# Altium footprint library Active-LED.PcbLib: 43 footprints (part 3 of 3)
Each footprint in its own frame and in the unit in brackets; x right, y up, seen from the top. Pads: shape width x height; smd on the part's side, far side on the other; paste and mask are expansions set on the pad; w line width, h text height; cw(c..) or ccw(c..) is an arc to the next point about the centre after c.
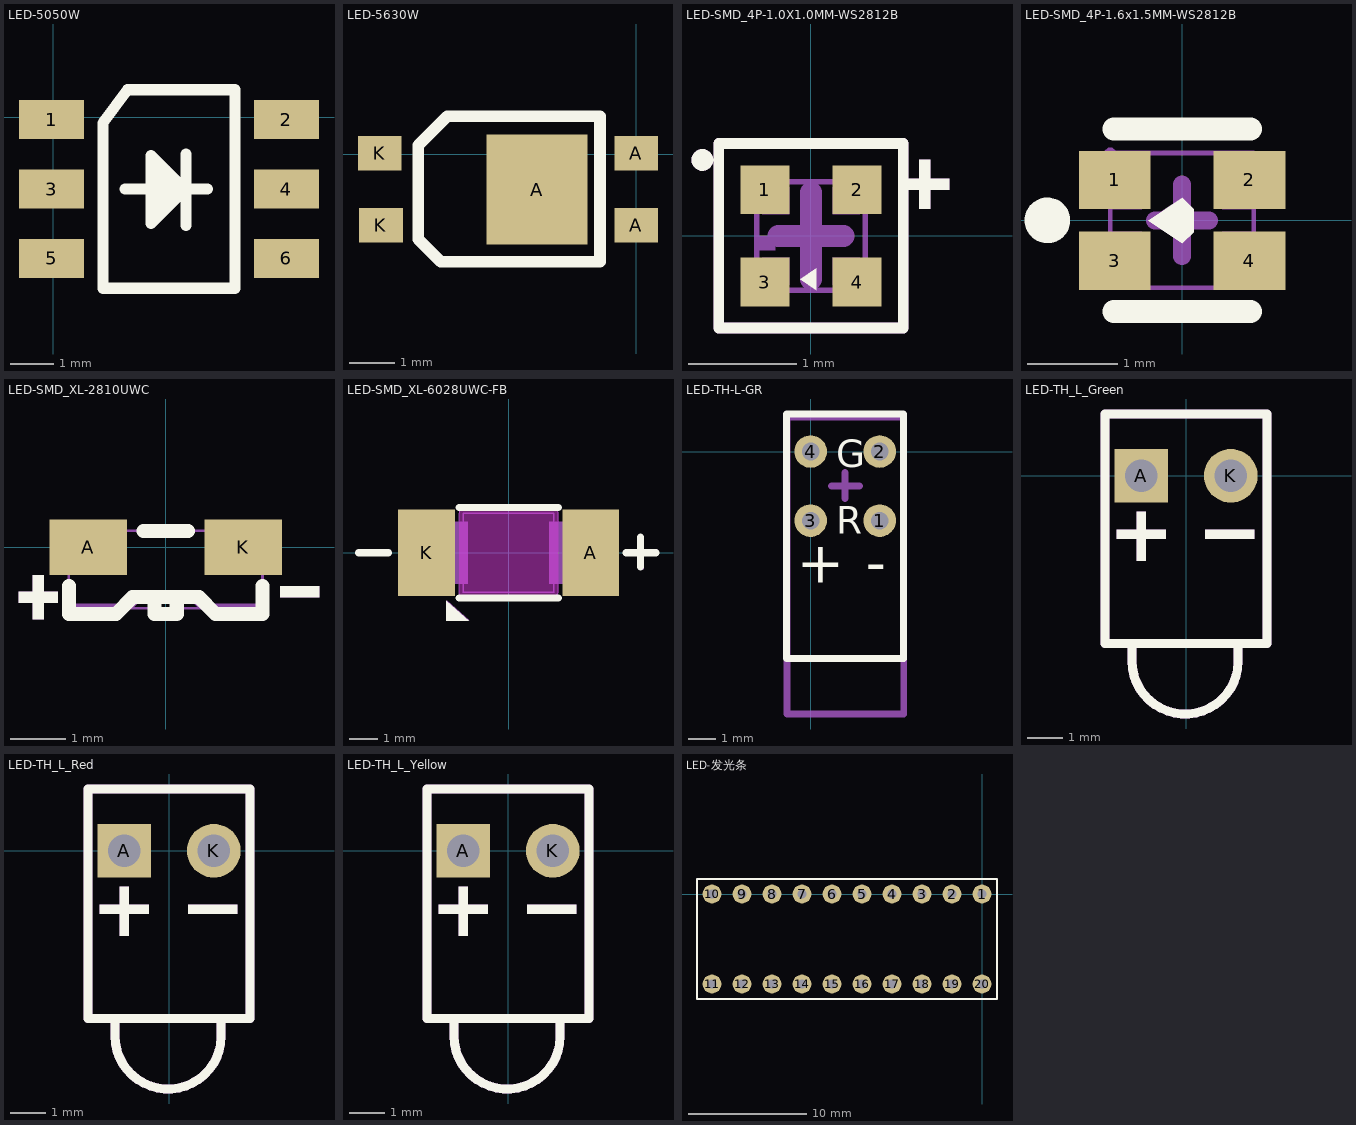
[diagram p2: the footprints below, top view; thin cyan lines are the x and y axes]

## LED-5050W [mm]
pads (6):
  rect 1.5x0.9 smd: 1(-0.038,-0.051) 2(5.372,-0.051) 3(-0.038,-1.651) 4(5.372,-1.651) 5(-0.038,-3.251) 6(5.372,-3.251)
Top Overlay:
  lines w0.254: 1.651,-1.651 3.556,-1.651 ; 2.413,-1.092 2.438,-2.083 2.921,-1.651 2.667,-1.397 2.667,-1.651 2.667,-1.905 ; 3.023,-1.671 2.25,-2.443 2.25,-0.876 3.063,-1.689 ; 3.063,-2.492 3.063,-0.846 ; 1.143,-3.937 4.191,-3.937 4.191,0.635 1.714,0.635 1.143,-0.127 1.143,-3.937
Bottom Courtyard:
  circle w0.05: c2.667,-1.651 r0.35
  lines w0.05: 2.167,-1.651 3.167,-1.651 ; 2.667,-2.151 2.667,-1.151
3D body "2.STEP": height 1.65, standoff 0.05, extent -0.033,-4.111 5.367,0.889

## LED-5630W [mm]
pads (5):
  rect 2.2x2.4 smd: A(-2.159,-0.768)
  rect 0.95x0.75 smd: A(0,-1.543) A(0,0.019) K(-5.588,0.019) K(-5.563,-1.543)
Top Overlay:
  lines w0.254: -4.75,-1.854 -4.75,0.197 -4.115,0.832 -0.787,0.832 -0.787,-2.343 -4.261,-2.343 -4.75,-1.854
3D body "1.STEP": height 0.95, standoff 0.05, extent -5.567,-2.286 0.233,0.714

## LED-SMD_4P-1.0X1.0MM-WS2812B [mm] "XINGLIGHT(成兴光)    XL-1010RGBC-WS2812B"
pads (4):
  rect 0.45x0.45 smd: 1(-0.425,0.425) 2(0.425,0.425) 3(-0.425,-0.425) 4(0.425,-0.425)
Top Overlay:
  circle w0.1: c-1,0.7 r0.05
  region: 0.825,0.525 0.825,0.425 1.275,0.425 1.275,0.525
  region: 1,0.25 1.1,0.25 1.1,0.7 1,0.7
  region: 0.05,-0.5 -0.1,-0.4 0.05,-0.3
  lines w0.1: -0.85,-0.85 0.85,-0.85 0.85,0.85 -0.85,0.85 -0.85,-0.85
Top Component Center:
  lines w0.2: -0.3,0 0.3,0 ; 0,-0.4 0,0.4
Top Value:
  text "'.Comment'" at -2.75,-0.38 h1.27
Top Designator:
  text "'.Designator'" at -3.642,-0.495 h1.27
Top Assembly (Mech20):
  circle w0.1: c-1,0.7 r0.05
  region: -0.5,0 -0.5,-0.13 -0.34,-0.13 -0.33,-0.13 -0.33,0
  region: 0.825,0.525 0.825,0.425 1.275,0.425 1.275,0.525
  region: 1,0.25 1.1,0.25 1.1,0.7 1,0.7
  region: 0.05,-0.5 -0.1,-0.4 0.05,-0.3
  region: 0.2,0.45 0.45,0.45 0.45,0.2 0.2,0.2
  region: -0.45,0.2 -0.45,0.45 -0.2,0.45 -0.2,0.2
  region: 0.45,-0.2 0.45,-0.45 0.2,-0.45 0.2,-0.2
  region: -0.2,-0.45 -0.45,-0.45 -0.45,-0.2 -0.2,-0.2
  region: -0.44,0.5 -0.44,0.524 -0.475,0.559 -0.524,0.559 -0.559,0.524 -0.56,0.5 -0.559,0.475 -0.524,0.441 -0.475,0.441 -0.44,0.475 -0.44,0.5
  lines w0.051: -0.5,-0.5 0.5,-0.5 0.5,0.5 -0.5,0.5 -0.5,-0.5
  lines w0.1: -0.85,-0.85 0.85,-0.85 0.85,0.85 -0.85,0.85 -0.85,-0.85
3D body "XL-1010RGBC-WS2812B.step": height 0.8, standoff -0.01, extent -0.5,-0.501 0.5,0.5

## LED-SMD_4P-1.6x1.5MM-WS2812B [mm] "XINGLIGHT(成兴光)   XL-1615RGBC-WS2812B"
pads (4):
  rect 0.8x0.65 smd paste+0 mask+0.05: 1(-0.75,0.45) 2(0.75,0.45) 3(-0.75,-0.45) 4(0.75,-0.45)
Top Overlay:
  circle w0.254: c-1.5,0 r0.127
  region: 0.129,-0.13 0.129,0.124 0.002,0.251 -0.379,-0.003 0.002,-0.257
  lines w0.254: -0.762,-1.016 0.762,-1.016 ; -0.762,1.016 0.762,1.016
Top Component Center:
  lines w0.2: -0.3,0 0.3,0 ; 0,-0.4 0,0.4
Top Value:
  text "'.Comment'" at -2.75,-0.38 h1.27
Top Designator:
  text "'.Designator'" at -3.642,-0.495 h1.27
Top Assembly (Mech20):
  region: -0.45,0.725 -0.45,0.125 -0.8,0.125 -0.8,0.725
  region: 0.8,0.725 0.8,0.125 0.45,0.125 0.45,0.725
  region: -0.45,-0.125 -0.45,-0.725 -0.8,-0.725 -0.8,-0.125
  region: 0.8,-0.125 0.8,-0.725 0.45,-0.725 0.45,-0.125
  region: -0.74,0.75 -0.741,0.775 -0.776,0.809 -0.825,0.809 -0.86,0.775 -0.86,0.75 -0.86,0.726 -0.825,0.691 -0.776,0.691 -0.741,0.726 -0.74,0.75
  region: 0.127,-0.127 0.127,0.127 0,0.254 -0.381,0 0,-0.254
  lines w0.051: -0.8,-0.75 0.8,-0.75 0.8,0.75 -0.8,0.75 -0.8,-0.75
3D body "XL-1615RGBC-WS2812B.step": height 0.59, standoff 0, extent -0.8,-0.75 0.8,0.75

## LED-SMD_XL-2810UWC [mm] "侧贴 白 XINGLIGHT(成兴光)   XL-2810UWC SMD,1.4x3.5mm"
pads (2):
  rect 1.4x1 smd: A(-1.4,0) K(1.4,0)
Top Overlay:
  region: -2.2,-1.3 -2.4,-1.3 -2.4,-0.5 -2.2,-0.5
  region: 2.77,-0.9 2.07,-0.9 2.07,-0.7 2.77,-0.7
  region: -1.95,-1 -2.65,-1 -2.65,-0.8 -1.95,-0.8
  lines w0.254: -1.75,-0.7 -1.75,-1.2 -0.899,-1.2 -0.6,-0.9 0.599,-0.9 0.899,-1.2 1.75,-1.2 1.75,-0.7 ; -0.4,0.3 0.4,0.3 ; -0.2,-1 -0.2,-1.2 0.2,-1.2 0.2,-0.9
Top Value:
  text "'.Comment'" at -2.75,-0.38 h1.27
Top Designator:
  text "'.Designator'" at -3.642,-0.495 h1.27
Top Courtyard:
  region: -1.69,-1.1 -1.69,-1.075 -1.725,-1.04 -1.775,-1.04 -1.81,-1.075 -1.81,-1.1 -1.81,-1.125 -1.775,-1.16 -1.725,-1.16 -1.69,-1.125 -1.69,-1.1
  region: -1.75,0.2 -1.07,0.2 -1.07,-0.4 -1.53,-0.4 -1.53,-0.04 -1.75,-0.04
  region: 1.75,0.2 1.07,0.2 1.07,-0.4 1.53,-0.4 1.53,-0.04 1.75,-0.04
  lines w0.051: -1.75,-1.1 1.75,-1.1 1.75,0.3 -1.75,0.3 -1.75,-1.1
Top Assembly (Mech20):
  region: 2.77,-0.9 2.07,-0.9 2.07,-0.7 2.77,-0.7
  region: -2.2,-1.3 -2.4,-1.3 -2.4,-0.5 -2.2,-0.5
  region: -1.95,-1 -2.65,-1 -2.65,-0.8 -1.95,-0.8
  region: 1.69,-1.08 0.58,-1.08 0.37,-0.87 -0.37,-0.87 -0.57,-1.07 -1.7,-1.07 -1.7,-1.02 -0.59,-1.02 -0.39,-0.82 0.39,-0.82 0.59,-1.02 1.69,-1.02
3D body "XL-2810UWC.step": height 1.2, standoff -0.01, extent -1.75,-1.1 1.75,0.3

## LED-SMD_XL-6028UWC-FB [mm] "6028 反贴 冷白 XINGLIGHT(成兴光) XL-6028UWC-FB"
pads (2):
  rect 2x3.066 smd: A(2.9,0) K(-2.9,0)
Top Overlay:
  region: -2.2,-1.7 -2.2,-2.4 -1.4,-2.4
  lines w0.254: -5.299,0 -4.249,0 ; -1.75,-1.6 1.75,-1.6 ; -1.75,1.6 1.75,1.6 ; 4.15,0 5.2,0 ; 4.662,-0.499 4.662,0.551
Keep-Out Layer:
  board cut-out: 1.524,-1.6 1.569,-1.6 1.652,-1.566 1.716,-1.502 1.75,-1.419 1.75,-1.374 1.75,-1.27 1.75,1.4 1.75,1.44 1.72,1.513 1.663,1.57 1.59,1.6 1.55,1.6 1.4,1.6 -1.5,1.6 -1.55,1.6 -1.59,1.6 -1.663,1.57 -1.72,1.513 -1.75,1.44 -1.75,1.4 -1.75,-1.45 -1.75,-1.48 -1.727,-1.535 -1.685,-1.577 -1.63,-1.6 -1.6,-1.6 -1.55,-1.6
Board Outline:
  lines w0.025: -1.75,-1.45 ccw(c-1.6,-1.45) -1.6,-1.6 -1.55,-1.6 1.524,-1.6 ccw(c1.524,-1.374) 1.75,-1.374 1.75,-1.27 1.75,1.4 ccw(c1.55,1.4) 1.55,1.6 1.4,1.6 -1.5,1.6 -1.55,1.6 ccw(c-1.55,1.4) -1.75,1.4 -1.75,-1.45
Top Courtyard:
  region: -2.88,-1.4 -2.881,-1.376 -2.916,-1.343 -2.964,-1.343 -2.999,-1.376 -3,-1.4 -2.999,-1.424 -2.964,-1.458 -2.916,-1.458 -2.881,-1.424 -2.88,-1.4
  region: -2.94,-1.095 -1.44,-1.095 -1.44,1.095 -2.94,1.095
  region: 2.94,-1.095 1.44,-1.095 1.44,1.095 2.94,1.095
  lines w0.051: -1.6,-1.4 1.6,-1.4 1.6,1.4 -1.6,1.4 -1.6,-1.4
Top Assembly (Mech20):
  region: 4.125,-0.1 5.275,-0.1 5.275,0.1 4.125,0.1
  region: 4.775,-0.585 4.775,0.565 4.575,0.565 4.575,-0.585
  region: -5.32,-0.088 -4.17,-0.088 -4.17,0.112 -5.32,0.112
  region: -2.187,-1.687 -2.187,-2.387 -1.387,-2.387
  region: -2.88,-1.4 -2.881,-1.376 -2.916,-1.343 -2.964,-1.343 -2.999,-1.376 -3,-1.4 -2.999,-1.424 -2.964,-1.458 -2.916,-1.458 -2.881,-1.424 -2.88,-1.4
  region: -2.94,-1.095 -1.44,-1.095 -1.44,1.095 -2.94,1.095
  region: 2.94,-1.095 1.44,-1.095 1.44,1.095 2.94,1.095
  lines w0.051: -1.6,-1.4 1.6,-1.4 1.6,1.4 -1.6,1.4 -1.6,-1.4
  text "'.Comment'" at -2.75,-0.38 h1.27
  text "'.Designator'" at -3.642,-0.495 h1.27
3D body "XL-6028UWC-FB.step": height 1.05, standoff -0.65, extent -2.94,-1.4 2.94,1.4

## LED-TH-L-GR [mm] "双层LED 左正右负 上绿下红"
pads (4):
  round 1.2 hole 0.65: 1(2.54,-2.54) 2(2.54,0) 3(0,-2.54) 4(0,0)
Top Overlay:
  lines w0.254: 3.411,-7.611 -0.88,-7.611 -0.88,1.38 3.42,1.38 3.42,-7.62
  text "G" at 0.95,-0.575 h1
  text "R" at 0.95,-3.025 h1
  text "-" at 2.032,-4.826 h1.52
  text "+" at -0.508,-4.826 h1.52
Top Component Outline:
  lines w0.254: -0.875,-9.65 -0.875,1.275 3.4,1.275 3.425,1.25 3.425,-9.65 -0.875,-9.65
Top Component Center:
  lines w0.254: 0.77,-1.27 1.795,-1.27 ; 1.27,-1.72 1.27,-0.77
Top Value:
  text "'.Comment'" at -2.058,-1.992 h1.52
Top Designator:
  text "'.Designator'" at -2.928,-1.868 h1.52
3D body "红绿双色LED.step": height 9.65, standoff -3.68, extent -0.871,-9.66 3.429,1.27

## LED-TH_L_Green [mil] "货套LED"
pads (2):
  rect 60x60 hole 36: A(-50,0)
  round 60 hole 36: K(50,0)
Top Overlay:
  region: 21.23,-60.12 21.23,-70.12 76.23,-70.12 76.23,-60.12
  region: -55,-95 -45,-95 -45,-40 -55,-40
  region: -77.5,-60 -77.5,-70 -22.5,-70 -22.5,-60
  lines w10: -60.3,-187.01 -60.3,-206.7 ccw(c-1.02,-206.45) 58.26,-206.69 58.26,-187.01 ; -90.55,-187.01 90.55,-187.01 90.55,68.9 -90.55,68.9 -90.55,-187.01
Top Value:
  text "'.Comment'" at -21.24,44.47 h78.74
Top Designator:
  text "'.Designator'" at -12.53,146.47 h78.74
Top Assembly (Mech20):
  region: 21.23,-60.12 21.23,-70.12 76.23,-70.12 76.23,-60.12
  region: -55,-95 -45,-95 -45,-40 -55,-40
  region: -77.5,-60 -77.5,-70 -22.5,-70 -22.5,-60
  lines w10: -60.3,-187.01 -60.3,-206.7 ccw(c-1.02,-206.45) 58.26,-206.69 58.26,-187.01 ; -90.55,-187.01 90.55,-187.01 90.55,68.9 -90.55,68.9 -90.55,-187.01
3D body "WP934CB-Green.STEP": height 289.37, standoff -135.83, extent -90.54,-274.6 90.56,69.88

## LED-TH_L_Red [mil] "货套LED"
pads (2):
  rect 60x60 hole 36: A(-50,0)
  round 60 hole 36: K(50,0)
Top Overlay:
  region: 21.23,-60.12 21.23,-70.12 76.23,-70.12 76.23,-60.12
  region: -55,-95 -45,-95 -45,-40 -55,-40
  region: -77.5,-60 -77.5,-70 -22.5,-70 -22.5,-60
  lines w10: -60.3,-187.01 -60.3,-206.7 ccw(c-1.02,-206.45) 58.26,-206.69 58.26,-187.01 ; -90.55,-187.01 90.55,-187.01 90.55,68.9 -90.55,68.9 -90.55,-187.01
Top Value:
  text "'.Comment'" at -21.24,44.47 h78.74
Top Designator:
  text "'.Designator'" at -12.53,146.47 h78.74
Top Assembly (Mech20):
  region: 21.23,-60.12 21.23,-70.12 76.23,-70.12 76.23,-60.12
  region: -55,-95 -45,-95 -45,-40 -55,-40
  region: -77.5,-60 -77.5,-70 -22.5,-70 -22.5,-60
  lines w10: -60.3,-187.01 -60.3,-206.7 ccw(c-1.02,-206.45) 58.26,-206.69 58.26,-187.01 ; -90.55,-187.01 90.55,-187.01 90.55,68.9 -90.55,68.9 -90.55,-187.01
3D body "WP934CB-Red.STEP": height 289.37, standoff -135.83, extent -90.54,-274.6 90.56,69.88

## LED-TH_L_Yellow [mil] "货套LED"
pads (2):
  rect 60x60 hole 36: A(-50,0)
  round 60 hole 36: K(50,0)
Top Overlay:
  region: -77.5,-60 -77.5,-70 -22.5,-70 -22.5,-60
  region: -55,-95 -45,-95 -45,-40 -55,-40
  region: 21.23,-60.12 21.23,-70.12 76.23,-70.12 76.23,-60.12
  lines w10: -60.3,-187.01 -60.3,-206.7 ccw(c-1.02,-206.45) 58.26,-206.69 58.26,-187.01 ; -90.55,-187.01 -90.55,68.9 90.55,68.9 90.55,-187.01 -90.55,-187.01
Top Value:
  text "'.Comment'" at -21.24,44.47 h78.74
Top Designator:
  text "'.Designator'" at -12.53,146.47 h78.74
Top Assembly (Mech20):
  region: -77.5,-60 -77.5,-70 -22.5,-70 -22.5,-60
  region: -55,-95 -45,-95 -45,-40 -55,-40
  region: 21.23,-60.12 21.23,-70.12 76.23,-70.12 76.23,-60.12
  lines w10: -60.3,-187.01 -60.3,-206.7 ccw(c-1.02,-206.45) 58.26,-206.69 58.26,-187.01 ; -90.55,-187.01 -90.55,68.9 90.55,68.9 90.55,-187.01 -90.55,-187.01
3D body "WP934CB-Yellow.STEP": height 289.37, standoff -135.83, extent -90.54,-274.6 90.56,69.88

## LED-发光条 [mm]
pads (20):
  round 1.6 hole 0.8: 1(0,0) 2(-2.54,0) 3(-5.08,0) 4(-7.62,0) 5(-10.16,0) 6(-12.7,0) 7(-15.24,0) 8(-17.78,0) 9(-20.32,0) 10(-22.86,0) 11(-22.86,-7.62) 12(-20.32,-7.62) 13(-17.78,-7.62) 14(-15.24,-7.62) 15(-12.7,-7.62) 16(-10.16,-7.62) 17(-7.62,-7.62) 18(-5.08,-7.62) 19(-2.54,-7.62) 20(0,-7.62)
Top Overlay:
  lines w0.2: -24.13,-8.89 -24.13,1.27 1.27,1.27 1.27,-8.89 -24.13,-8.89
3D body "User Library-LED_BAR_10.STEP": height 7.3, standoff -6.5, extent -24.13,-8.89 1.27,1.27